# EAGLE library part QDEC_LOGIC (library AmandaEagleLibrary)
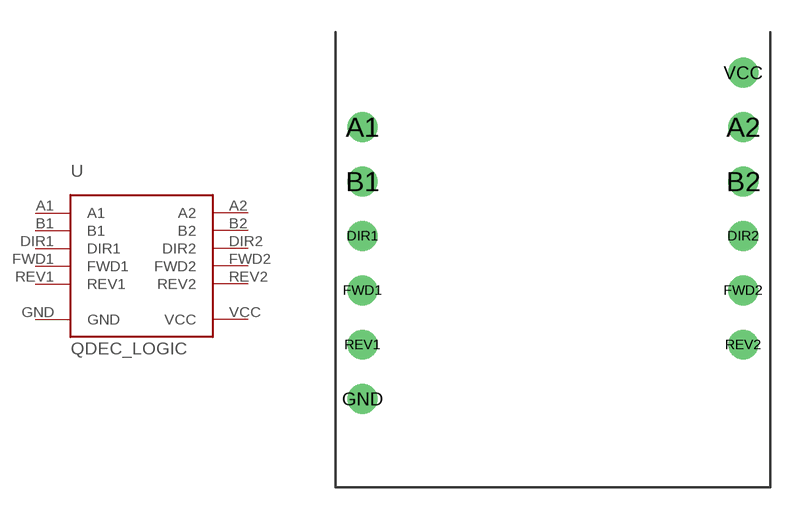
[diagram p6: symbol with the pads of QDEC_LOGIC_VSSOP; footprint QDEC_LOGIC_VSSOP]

Designator prefix -

## QDEC_LOGIC  [QDEC_LOGIC_VSSOP]
A1  A1
A2  A2
B1  B1
B2  B2
DIR1  DIR1
DIR2  DIR2
FWD1  FWD1
FWD2  FWD2
GND  GND
REV1  REV1
REV2  REV2
VCC  VCC

## Footprint QDEC_LOGIC_VSSOP (pad centres in mm)
drill 0.889: A1 1.27,16.828; A2 19.05,16.828; B1 1.27,14.287; B2 19.05,14.287; DIR1 1.27,11.748; DIR2 19.05,11.748; FWD1 1.27,9.207; FWD2 19.05,9.207; GND 1.27,4.128; REV1 1.27,6.668; REV2 19.05,6.668; VCC 19.05,19.367